# Altium footprint library fiber-optic-hp.PCBLIB: 5 footprints
Each footprint in its own frame and in the unit in brackets; x right, y up, seen from the top. Pads: shape width x height; smd on the part's side, far side on the other; paste and mask are expansions set on the pad; w line width, h text height; cw(c..) or ccw(c..) is an arc to the next point about the centre after c.
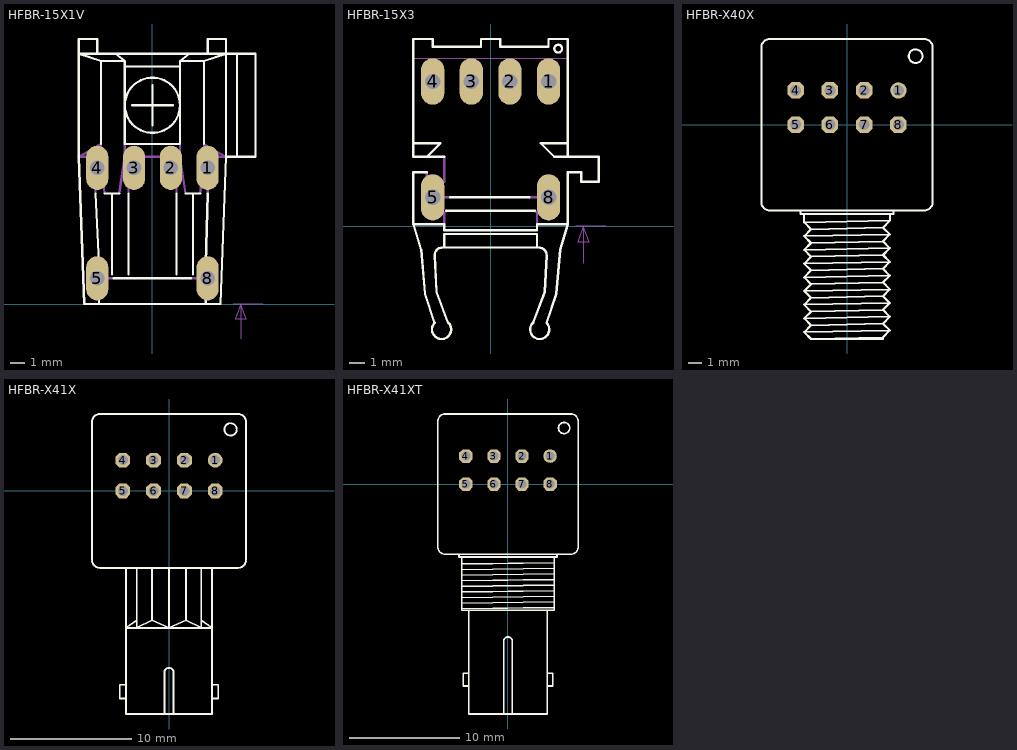
[diagram p0: the footprints below, top view; thin cyan lines are the x and y axes]

## HFBR-15X1V [mil]
pads (6):
  oval 60x120 hole 40: 1(150,370) 2(50,370) 3(-50,370) 4(-150,370) 5(-150,70) 8(150,70)
Top Overlay:
  circle w6: c0,540 r75
  lines w6: -155,300 -145,110 ; -145,30 -145,0 ; -140,435 -140,660 ; -130,300 -110,300 ; -110,80 -110,300 ; -105,70 105,70 ; -90,300 -110,300 ; -65,80 -65,300 ; -55,540 55,540 ; 0,485 0,595 ; 65,80 65,300 ; 90,300 110,300 ; 110,80 110,300 ; 130,300 110,300 ; 140,435 140,660 ; 145,30 145,0 ; 145,110 150,300 ; -200,680 -200,720 -150,720 -150,680 ; -200,680 -140,660 ; -200,680 -200,400 -185,0 -145,0 ; -200,680 -150,680 ; -150,680 -100,680 ; -145,0 145,0 ; -140,660 -75,660 ; -100,680 -75,660 ; -100,680 100,680 ; -75,645 75,645 ; -75,645 -75,435 75,435 75,645 ; -75,645 -75,660 ; 75,645 75,660 ; 75,660 140,660 ; 75,660 100,680 ; 100,680 150,680 ; 140,660 200,680 ; 145,0 185,0 200,400 ; 150,680 150,720 200,720 200,680 ; 150,680 200,680 ; 200,400 200,680 ; 200,400 230,400 ; 200,680 230,680 ; 230,400 280,400 280,680 230,680 ; 230,400 230,680
Mechanical 16:
  lines w2: 220,0 240,0 ; 240,-95 240,0 ; 300,0 240,0 ; 240,0 225,-40 255,-40 240,0
  lines w6: -155,300 -160,400 ; -145,30 -145,110 ; -140,70 -105,70 ; -130,300 -140,400 ; -90,300 -75,400 ; -75,435 -75,400 ; -65,300 -65,400 ; 65,300 65,400 ; 75,435 75,400 ; 90,300 75,400 ; 105,70 140,70 ; 130,300 140,400 ; 145,30 145,110 ; 150,300 155,400 ; -160,400 -200,400 -140,435 -140,400 ; -160,400 -140,400 ; -75,400 -65,400 ; -65,400 65,400 ; 65,400 75,400 ; 140,400 140,435 200,400 155,400 ; 140,400 155,400

## HFBR-15X3 [mil]
pads (6):
  oval 60x120 hole 40: 1(150,375) 2(50,375) 3(-50,375) 4(-150,375) 5(-150,75) 8(150,75)
Top Overlay:
  circle w6: c175,460 r10
  lines w6: -165,140 -200,140 -200,5 ; -120,180 -165,180 ; -115,40 115,40 ; -110,-250 -140,-170 -145,-75 cw(c-125,-75) -125,-55 -120,-55 ; -109.49,-249.49 cw(c-127,-267) -145,-250 -170,-175 -180,-60 -200,5 ; -105,75 100,75 ; 109.49,-249.49 ccw(c126.99,-267) 144.99,-250.01 170,-175 180,-60 200,5 ; 110,-250 140,-170 145,-75 ccw(c125,-75) 125,-55 120,-55 ; -200,5 -120,5 -120,-10 120,-10 120,5 200,5 ; -200,215 -200,485 -150,485 -150,465 -25,465 -25,485 25,485 25,465 150,465 150,485 200,485 200,215 ; -200,215 -130,215 -165,180 ; -200,215 -200,180 -165,180 ; -120,-55 120,-55 ; -120,-55 -120,-20 120,-20 120,-55 ; 200,5 200,140 235,140 235,115 280,115 280,180 200,180 ; 200,180 200,215 ; 200,180 165,180 130,215 200,215
Mechanical 16:
  lines w2: -200,435 200,435 ; 220,0 240,0 ; 240,-95 240,0 ; 300,0 240,0 ; 240,0 225,-40 255,-40 240,0
  lines w6: -165,75 -105,75 ; -165,140 -165,115 -120,115 -120,180 ; -120,5 -120,35 -115,40 ; 100,75 165,75 ; 115,40 120,35 120,5

## HFBR-X40X [mil]
pads (8):
  round 48 hole 32: 1(150,100)
  oct 48x48 hole 32: 2(50,100) 3(-50,100) 4(-150,100) 5(-150,0) 6(-50,0) 7(50,0) 8(150,0)
Top Overlay:
  circle w6: c200,200 r20
  lines w6: -135,-250 135,-250 ; -135,-250 -135,-260 -125,-260 ; -135,-250 -225,-250 cw(c-225,-225) -250,-225 -250,225 cw(c-225,225) -225,250 225,250 cw(c225,225) 250,225 250,-225 cw(c225,-225) 225,-250 135,-250 ; -125,-605 -105,-585 ; -125,-605 -105,-625 ; -125,-605 125,-600 ; -125,-565 -105,-545 ; -125,-565 -105,-585 ; -125,-565 125,-560 ; -125,-525 -105,-505 ; -125,-525 -105,-545 ; -125,-525 125,-520 ; -125,-485 -105,-465 ; -125,-485 -105,-505 ; -125,-485 125,-480 ; -125,-445 -105,-425 ; -125,-445 -105,-465 ; -125,-445 125,-440 ; -125,-405 -105,-385 ; -125,-405 -105,-425 ; -125,-405 125,-400 ; -125,-365 -105,-345 ; -125,-365 -105,-385 ; -125,-365 125,-360 ; -125,-325 -105,-305 ; -125,-325 -105,-345 ; -125,-325 125,-320 ; -125,-285 -125,-260 ; -125,-285 -105,-305 ; -125,-285 125,-280 ; -125,-260 125,-260 ; -105,-625 105,-625 105,-620 ; -105,-625 105,-620 ; -105,-585 105,-580 ; -105,-545 105,-540 ; -105,-505 105,-500 ; -105,-465 105,-460 ; -105,-425 105,-420 ; -105,-385 105,-380 ; -105,-345 105,-340 ; -105,-305 105,-300 ; 105,-620 125,-600 ; 105,-580 125,-560 ; 105,-580 125,-600 ; 105,-540 125,-520 ; 105,-540 125,-560 ; 105,-500 125,-480 ; 105,-500 125,-520 ; 105,-460 125,-440 ; 105,-460 125,-480 ; 105,-420 125,-400 ; 105,-420 125,-440 ; 105,-380 125,-360 ; 105,-380 125,-400 ; 105,-340 125,-320 ; 105,-340 125,-360 ; 105,-300 125,-280 ; 105,-300 125,-320 ; 125,-280 125,-260 ; 125,-260 135,-260 135,-250

## HFBR-X41X [mil]
pads (8):
  round 48 hole 32: 1(150,100)
  oct 48x48 hole 32: 2(50,100) 3(-50,100) 4(-150,100) 5(-150,0) 6(-50,0) 7(50,0) 8(150,0)
Top Overlay:
  circle w6: c200,200 r20
  lines w6: -140,-675 -140,-725 -15,-725 ; -140,-675 -160,-675 -160,-630 -140,-630 ; -140,-675 -140,-630 ; -140,-630 -140,-445 ; -140,-445 -105,-445 ; -140,-445 -140,-250 ; -140,-445 -105,-420 ; -140,-250 -225,-250 cw(c-225,-225) -250,-225 -250,225 cw(c-225,225) -225,250 225,250 cw(c225,225) 250,225 250,-225 cw(c225,-225) 225,-250 140,-250 ; -140,-250 -105,-250 ; -105,-445 -105,-420 ; -105,-445 0,-445 ; -105,-445 -55,-420 ; -105,-420 -105,-250 ; -105,-250 -55,-250 ; -55,-420 0,-445 ; -55,-420 -55,-250 ; -55,-250 0,-250 ; -15,-725 -15,-590 cw(c0,-590) 15,-590 15,-725 ; -15,-725 15,-725 ; 0,-445 0,-250 ; 0,-445 55,-420 ; 0,-445 105,-445 ; 0,-250 55,-250 ; 15,-725 140,-725 140,-675 ; 55,-420 105,-445 ; 55,-420 55,-250 ; 55,-250 105,-250 ; 105,-445 105,-420 ; 105,-445 140,-445 ; 105,-420 140,-445 ; 105,-420 105,-250 ; 105,-250 140,-250 ; 140,-675 160,-675 160,-630 140,-630 ; 140,-675 140,-630 ; 140,-630 140,-445 ; 140,-445 140,-250

## HFBR-X41XT [mil]
pads (8):
  round 48 hole 32: 1(150,100)
  oct 48x48 hole 32: 2(50,100) 3(-50,100) 4(-150,100) 5(-150,0) 6(-50,0) 7(50,0) 8(150,0)
Top Overlay:
  circle w6: c200,200 r20
  lines w6: -175,-250 -175,-260 -165,-260 ; -175,-250 175,-250 ; -175,-250 -225,-250 cw(c-225,-225) -250,-225 -250,225 cw(c-225,225) -225,250 225,250 cw(c225,225) 250,225 250,-225 cw(c225,-225) 225,-250 175,-250 ; -165,-445 165,-440 ; -165,-445 -165,-425 ; -165,-445 -165,-450 -140,-450 ; -165,-425 165,-420 ; -165,-425 -165,-405 ; -165,-405 165,-400 ; -165,-405 -165,-385 ; -165,-385 165,-380 ; -165,-385 -165,-365 ; -165,-365 165,-360 ; -165,-365 -165,-345 ; -165,-345 165,-340 ; -165,-345 -165,-325 ; -165,-325 165,-320 ; -165,-325 -165,-305 ; -165,-305 165,-300 ; -165,-305 -165,-285 ; -165,-285 -165,-260 ; -165,-285 165,-280 ; -165,-260 165,-260 ; -140,-720 -140,-820 -15,-820 ; -140,-720 -160,-720 -160,-675 -140,-675 ; -140,-720 -140,-675 ; -140,-675 -140,-450 ; -140,-450 140,-450 ; -15,-820 -15,-560 cw(c0,-560) 15,-560 15,-820 ; -15,-820 15,-820 ; 15,-820 140,-820 140,-720 ; 140,-720 160,-720 160,-675 140,-675 ; 140,-720 140,-675 ; 140,-675 140,-450 ; 140,-450 165,-450 165,-440 ; 165,-440 165,-420 ; 165,-420 165,-400 ; 165,-400 165,-380 ; 165,-380 165,-360 ; 165,-360 165,-340 ; 165,-340 165,-320 ; 165,-320 165,-300 ; 165,-300 165,-280 ; 165,-280 165,-260 ; 165,-260 175,-260 175,-250